# Altium schematic symbol library Base strip-MC.SchLib: 1 symbol
Pins are listed as number, name and electrical type; pins without a type are passive.

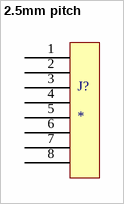
[diagram p0: symbol 2.5mm pitch]

## 2.5mm pitch
designator J?
footprint 2.5mm pitch
pins: 1, 2, 3, 4, 5, 6, 7, 8